# EAGLE library part TP4056 (library Eagle CMR)
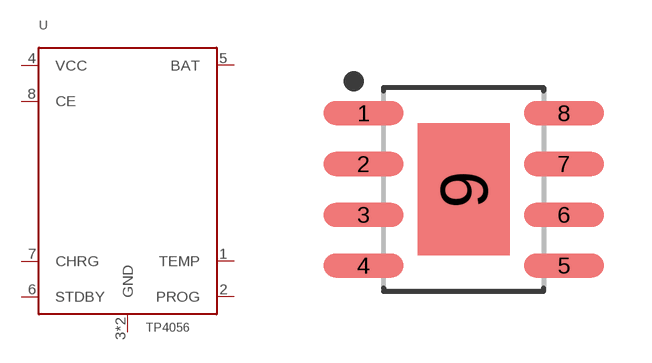
[diagram p18: symbol with the pads of SOIC8; footprint SOIC8]

Designator prefix U

## TP4056  [SOIC8]
1  TEMP
2  PROG
3  GND
4  VCC
5  BAT
6  STDBY
7  CHRG
8  CE
9  GND

## Footprint SOIC8 (pad centres in mm)
8-SOIC, 1.27 mm pitch, 6.05 mm span, 4.90 X 3.90 X 1.75 mm body, 3.51 X 2.62 mm thermal pad 8-pin SOIC package with 1.27 mm pitch, 6.05 mm span with body size 4.90 X 3.90 X 1.75 mm and thermal pad size 3.51 X 2.62 mm
smd 2.001 x 0.602: 1 -2.506,1.905; 2 -2.506,0.635; 3 -2.506,-0.635; 4 -2.506,-1.905; 5 2.506,-1.905; 6 2.506,-0.635; 7 2.506,0.635; 8 2.506,1.905
smd 2.3 x 3.3: 9 0,0